# EAGLE library part ADC101C027CIMKX/NOPB (library 911_circuits)
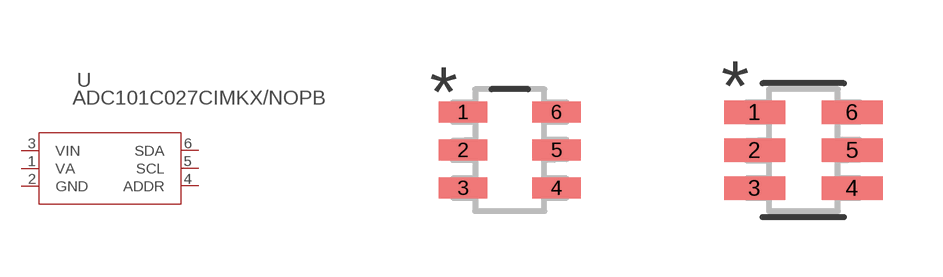
[diagram p11: symbol with the pads of MK06A; footprints MK06A, MK06A-M]

Designator prefix U

## ADC101C027CIMKX/NOPB (COPYRIGHT: Copyright (C) 2025 Ultra Librarian. All rights reserved.; MANUFACTURER_PART_NUMBER: ADC101C027CIMKX/NOPB; MFR_NAME: Texas Instruments)  [MK06A]
1  VA  pwr
2  GND  pwr
3  VIN  in
4  ADDR  in
5  SCL  in
6  SDA

## ADC101C027CIMKX/NOPBMK06A-M (COPYRIGHT: Copyright (C) 2025 Ultra Librarian. All rights reserved.; MANUFACTURER_PART_NUMBER: ADC101C027CIMKX/NOPB; MFR_NAME: Texas Instruments)  [MK06A-M]
Pads as for MK06A

## ADC101C027CIMKX/NOPBMK06A-L (COPYRIGHT: Copyright (C) 2025 Ultra Librarian. All rights reserved.; MANUFACTURER_PART_NUMBER: ADC101C027CIMKX/NOPB; MFR_NAME: Texas Instruments)  [MK06A-L]
Pads as for MK06A

## Footprint MK06A (pad centres in mm)
smd 1.219 x 0.533: 1 -1.168,0.95; 2 -1.168,0; 3 -1.168,-0.95; 4 1.168,-0.95; 5 1.168,0; 6 1.168,0.95

## Footprint MK06A-M (pad centres in mm)
smd 1.524 x 0.584: 1 -1.219,0.95; 2 -1.219,0; 3 -1.219,-0.95; 4 1.219,-0.95; 5 1.219,0; 6 1.219,0.95

## Footprint MK06A-L (pad centres in mm)
smd 0.914 x 0.483: 1 -1.118,0.95; 2 -1.118,0; 3 -1.118,-0.95; 4 1.118,-0.95; 5 1.118,0; 6 1.118,0.95